# Altium footprint library mypcblib.PcbLib: 9 footprints
Each footprint in its own frame and in the unit in brackets; x right, y up, seen from the top. Pads: shape width x height; smd on the part's side, far side on the other; paste and mask are expansions set on the pad; w line width, h text height; cw(c..) or ccw(c..) is an arc to the next point about the centre after c.
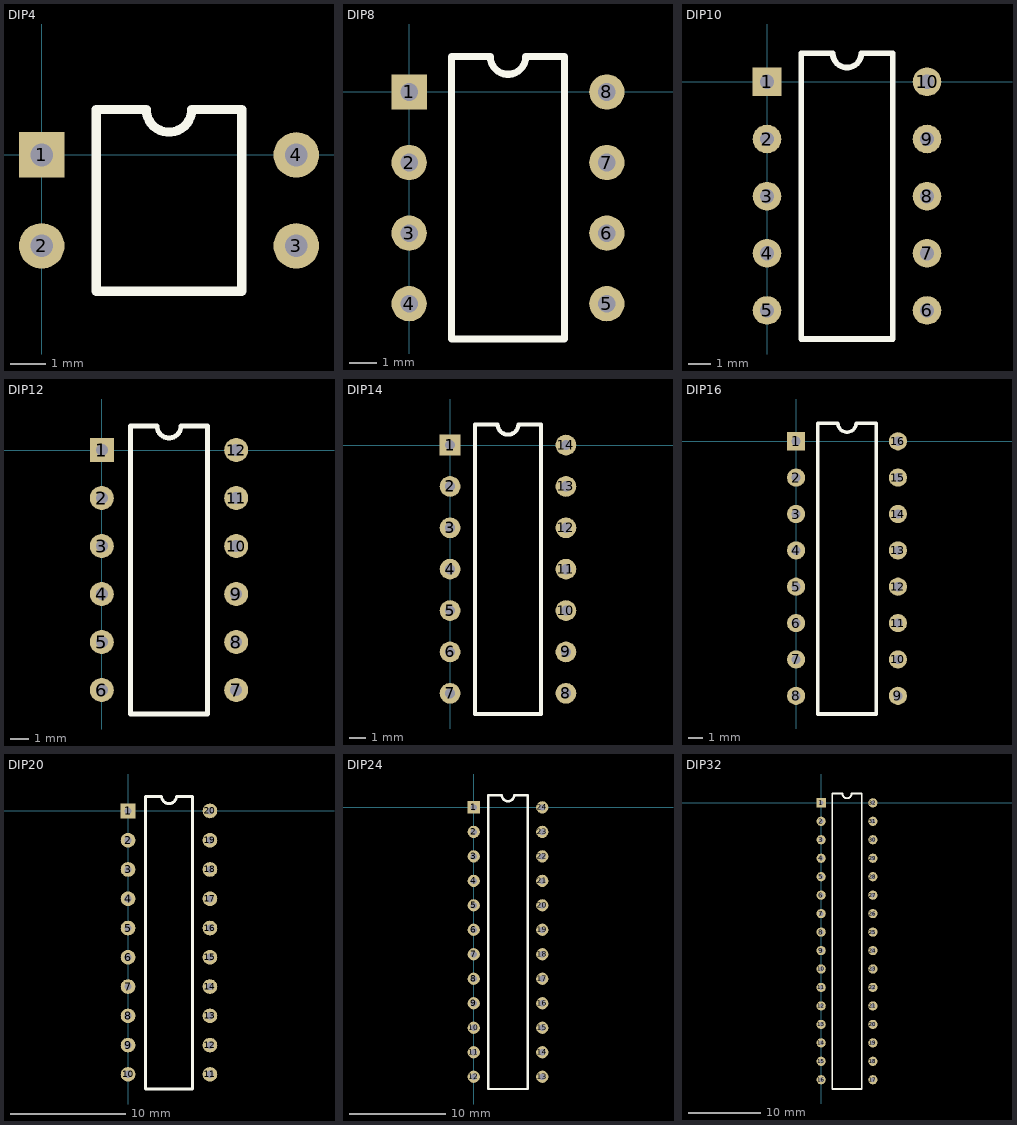
[diagram p0: the footprints below, top view; thin cyan lines are the x and y axes]

## DIP4 [mil]
pads (4):
  rect 50x50 hole 25: 1(0,0)
  round 50 hole 25: 2(0,-100) 3(280,-100) 4(280,0)
Top Overlay:
  lines w10: 60,-150 220,-150 220,50 165,50 cw(c140,50) 115,50 60,50 60,-150

## DIP8 [mil]
pads (8):
  rect 50x50 hole 25: 1(0,0)
  round 50 hole 25: 2(0,-100) 3(0,-200) 4(0,-300) 5(280,-300) 6(280,-200) 7(280,-100) 8(280,0)
Top Overlay:
  lines w10: 60,-350 60,50 115,50 ccw(c140,50) 165,50 220,50 220,-350 60,-350

## DIP10 [mil]
pads (10):
  rect 50x50 hole 25: 1(0,0)
  round 50 hole 25: 2(0,-100) 3(0,-200) 4(0,-300) 5(0,-400) 6(280,-400) 7(280,-300) 8(280,-200) 9(280,-100) 10(280,0)
Top Overlay:
  lines w10: 60,-450 220,-450 220,50 165,50 cw(c140,50) 115,50 60,50 60,-450

## DIP12 [mil]
pads (12):
  rect 50x50 hole 25: 1(0,0)
  round 50 hole 25: 2(0,-100) 3(0,-200) 4(0,-300) 5(0,-400) 6(0,-500) 7(280,-500) 8(280,-400) 9(280,-300) 10(280,-200) 11(280,-100) 12(280,0)
Top Overlay:
  lines w10: 60,-550 220,-550 220,50 165,50 cw(c140,50) 115,50 60,50 60,-550

## DIP14 [mil]
pads (14):
  rect 50x50 hole 25: 1(0,0)
  round 50 hole 25: 2(0,-100) 3(0,-200) 4(0,-300) 5(0,-400) 6(0,-500) 7(0,-600) 8(280,-600) 9(280,-500) 10(280,-400) 11(280,-300) 12(280,-200) 13(280,-100) 14(280,0)
Top Overlay:
  lines w10: 60,-650 220,-650 220,50 165,50 cw(c140,50) 115,50 60,50 60,-650

## DIP16 [mil]
pads (16):
  rect 50x50 / inner rect 500x50 / far side rect 50x50 hole 25: 1(0,0)
  round 50 / inner oval 500x50 / far side round 50 hole 25: 2(0,-100) 3(0,-200) 4(0,-300) 5(0,-400) 6(0,-500) 7(0,-600) 8(0,-700) 9(280,-700) 10(280,-600) 11(280,-500) 12(280,-400) 13(280,-300) 14(280,-200) 15(280,-100) 16(280,0)
Top Overlay:
  lines w10: 60,-750 220,-750 220,50 165,50 cw(c140,50) 115,50 60,50 60,-750

## DIP20 [mil]
pads (20):
  rect 50x50 hole 25: 1(0,0)
  round 50 hole 25: 2(0,-100) 3(0,-200) 4(0,-300) 5(0,-400) 6(0,-500) 7(0,-600) 8(0,-700) 9(0,-800) 10(0,-900) 11(280,-900) 12(280,-800) 13(280,-700) 14(280,-600) 15(280,-500) 16(280,-400) 17(280,-300) 18(280,-200) 19(280,-100) 20(280,0)
Top Overlay:
  lines w10: 60,-950 220,-950 220,50 165,50 cw(c140,50) 115,50 60,50 60,-950

## DIP24 [mil]
pads (24):
  rect 50x50 hole 25: 1(0,0)
  round 50 hole 25: 2(0,-100) 3(0,-200) 4(0,-300) 5(0,-400) 6(0,-500) 7(0,-600) 8(0,-700) 9(0,-800) 10(0,-900) 11(0,-1000) 12(0,-1100) 13(280,-1100) 14(280,-1000) 15(280,-900) 16(280,-800) 17(280,-700) 18(280,-600) 19(280,-500) 20(280,-400) 21(280,-300) 22(280,-200) 23(280,-100) 24(280,0)
Top Overlay:
  lines w10: 60,-1150 60,50 115,50 ccw(c140,50) 165,50 220,50 220,-1150 60,-1150

## DIP32 [mil]
pads (32):
  rect 50x50 hole 25: 1(0,0)
  round 50 hole 25: 2(0,-100) 3(0,-200) 4(0,-300) 5(0,-400) 6(0,-500) 7(0,-600) 8(0,-700) 9(0,-800) 10(0,-900) 11(0,-1000) 12(0,-1100) 13(0,-1200) 14(0,-1300) 15(0,-1400) 16(0,-1500) 17(280,-1500) 18(280,-1400) 19(280,-1300) 20(280,-1200) 21(280,-1100) 22(280,-1000) 23(280,-900) 24(280,-800) 25(280,-700) 26(280,-600) 27(280,-500) 28(280,-400) 29(280,-300) 30(280,-200) 31(280,-100) 32(280,0)
Top Overlay:
  lines w10: 60,-1550 220,-1550 220,50 165,50 cw(c140,50) 115,50 60,50 60,-1550